# Altium footprint library CUI_UJ2-MIBH2-4-SMT.PcbLib: 1 footprints
Each footprint in its own frame and in the unit in brackets; x right, y up, seen from the top. Pads: shape width x height; smd on the part's side, far side on the other; paste and mask are expansions set on the pad; w line width, h text height; cw(c..) or ccw(c..) is an arc to the next point about the centre after c.
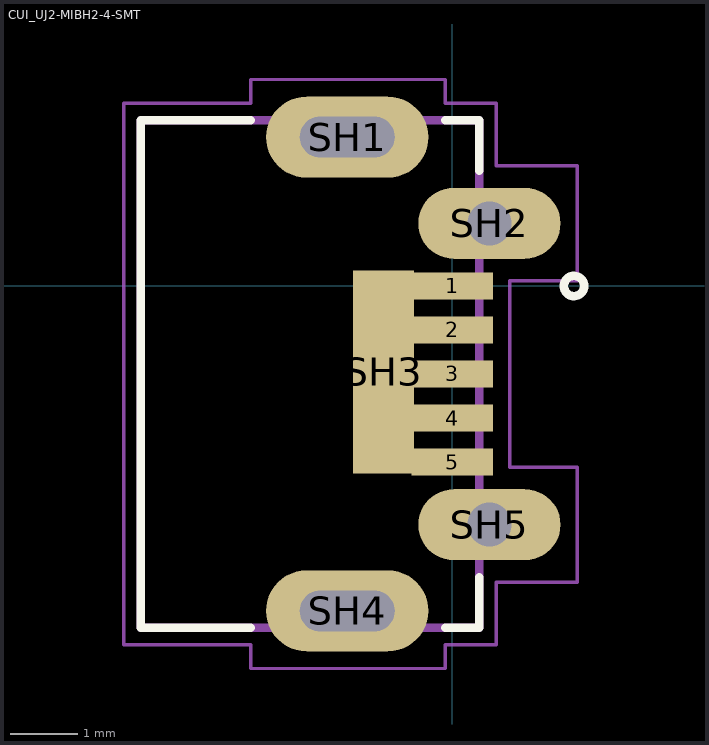
[diagram p0: the footprint, top view; thin cyan lines are the x and y axes]

## CUI_UJ2-MIBH2-4-SMT [mm]
pads (10):
  rect 1.2x0.4 smd: 1(0,0) 2(0,-0.65) 3(0,-1.3) 4(0,-1.95) 5(0,-2.6)
  oval 2.4x1.2 hole 0.6 slot 1.4 at 0 deg: SH1(-1.55,2.2) SH4(-1.55,-4.8)
  oval 2.1x1.05 hole 0.65: SH2(0.55,0.925) SH5(0.55,-3.525)
  rect 0.9x3 smd: SH3(-1.016,-1.27)
Top Overlay:
  circle w0.127: c1.8,0 r0.15
  lines w0.127: -2.975,-5.05 -4.6,-5.05 -4.6,2.45 -2.975,2.45 ; -0.1,-5.05 0.4,-5.05 0.4,-4.3 ; -0.1,2.45 0.4,2.45 0.4,1.7
Milling Layer:
  lines w0.001: 0.55,-3.851 0.624,-3.851 ccw(c0.624,-3.525) 0.95,-3.525 ccw(c0.625,-3.525) 0.625,-3.2 0.55,-3.2 ; 0.55,-3.85 0.475,-3.85 cw(c0.475,-3.525) 0.15,-3.525 cw(c0.476,-3.525) 0.476,-3.199 0.55,-3.2 ; 0.55,1.25 0.625,1.25 cw(c0.625,0.925) 0.95,0.925 cw(c0.624,0.925) 0.624,0.599 0.55,0.6 0.475,0.6 cw(c0.475,0.925) 0.15,0.925 cw(c0.476,0.925) 0.476,1.251 0.55,1.251
Assembly Top:
  circle w0.16: c-0.15,0 r0.08
  lines w0.127: -4.6,-5.05 -4.6,2.45 0.4,2.45 0.4,-5.05 -4.6,-5.05
Courtyard Top:
  lines w0.05: -4.85,-5.3 -4.85,2.7 -2.975,2.7 -2.975,3.05 -0.1,3.05 -0.1,2.7 0.65,2.7 0.65,1.775 1.85,1.775 1.85,0.075 0.85,0.075 0.85,-2.675 1.85,-2.675 1.85,-4.375 0.65,-4.375 0.65,-5.3 -0.1,-5.3 -0.1,-5.65 -2.975,-5.65 -2.975,-5.3 -4.85,-5.3
3D body "step_temp.STEP": height 3.81, standoff 0.4, extent -4.406,-5.02 0.889,2.48